# EAGLE library part ADC121C021 (library alexwhittemore-eagle)
ADC121C021 National Instruments I2C-Compatible 12-bit Analog-to-Digital converter with alert.
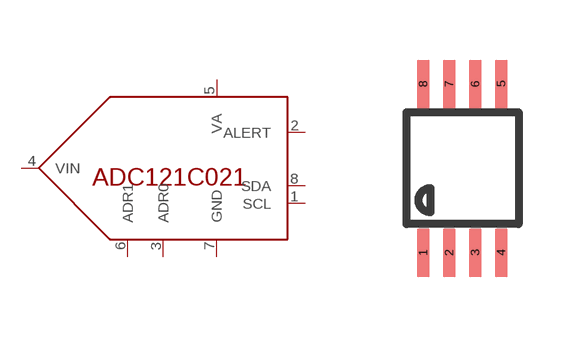
[diagram p2: symbol with the pads of MSOP08; footprint MSOP08]

Designator prefix IC

## ADC121C021  [MSOP08]
1  SCL  in
2  ALERT  out
3  ADR0  in
4  VIN  in
5  VA  pwr
6  ADR1  in
7  GND  pwr
8  SDA

## Footprint MSOP08 (pad centres in mm)
Mini Small Outline Package Grid 0.5mm
smd 0.3 x 1.2: 1 -0.976,-2.113; 2 -0.326,-2.113; 3 0.324,-2.113; 4 0.974,-2.113; 5 0.974,2.112; 6 0.324,2.112; 7 -0.326,2.112; 8 -0.976,2.112